# Altium schematic symbol library LED_Tutorial_2.SchLib: 2 symbols
Pins are listed as number, name and electrical type; pins without a type are passive.

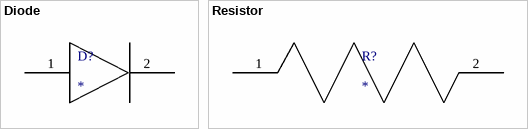
[diagram p0: symbols Diode to Resistor]

## Diode
designator D?
pins: 1, 2

## Resistor
designator R?
pins: 1, 2